# Altium footprint library vga.PcbLib: 95 footprints (part 2 of 7)
Each footprint in its own frame and in the unit in brackets; x right, y up, seen from the top. Pads: shape width x height; smd on the part's side, far side on the other; paste and mask are expansions set on the pad; w line width, h text height; cw(c..) or ccw(c..) is an arc to the next point about the centre after c.
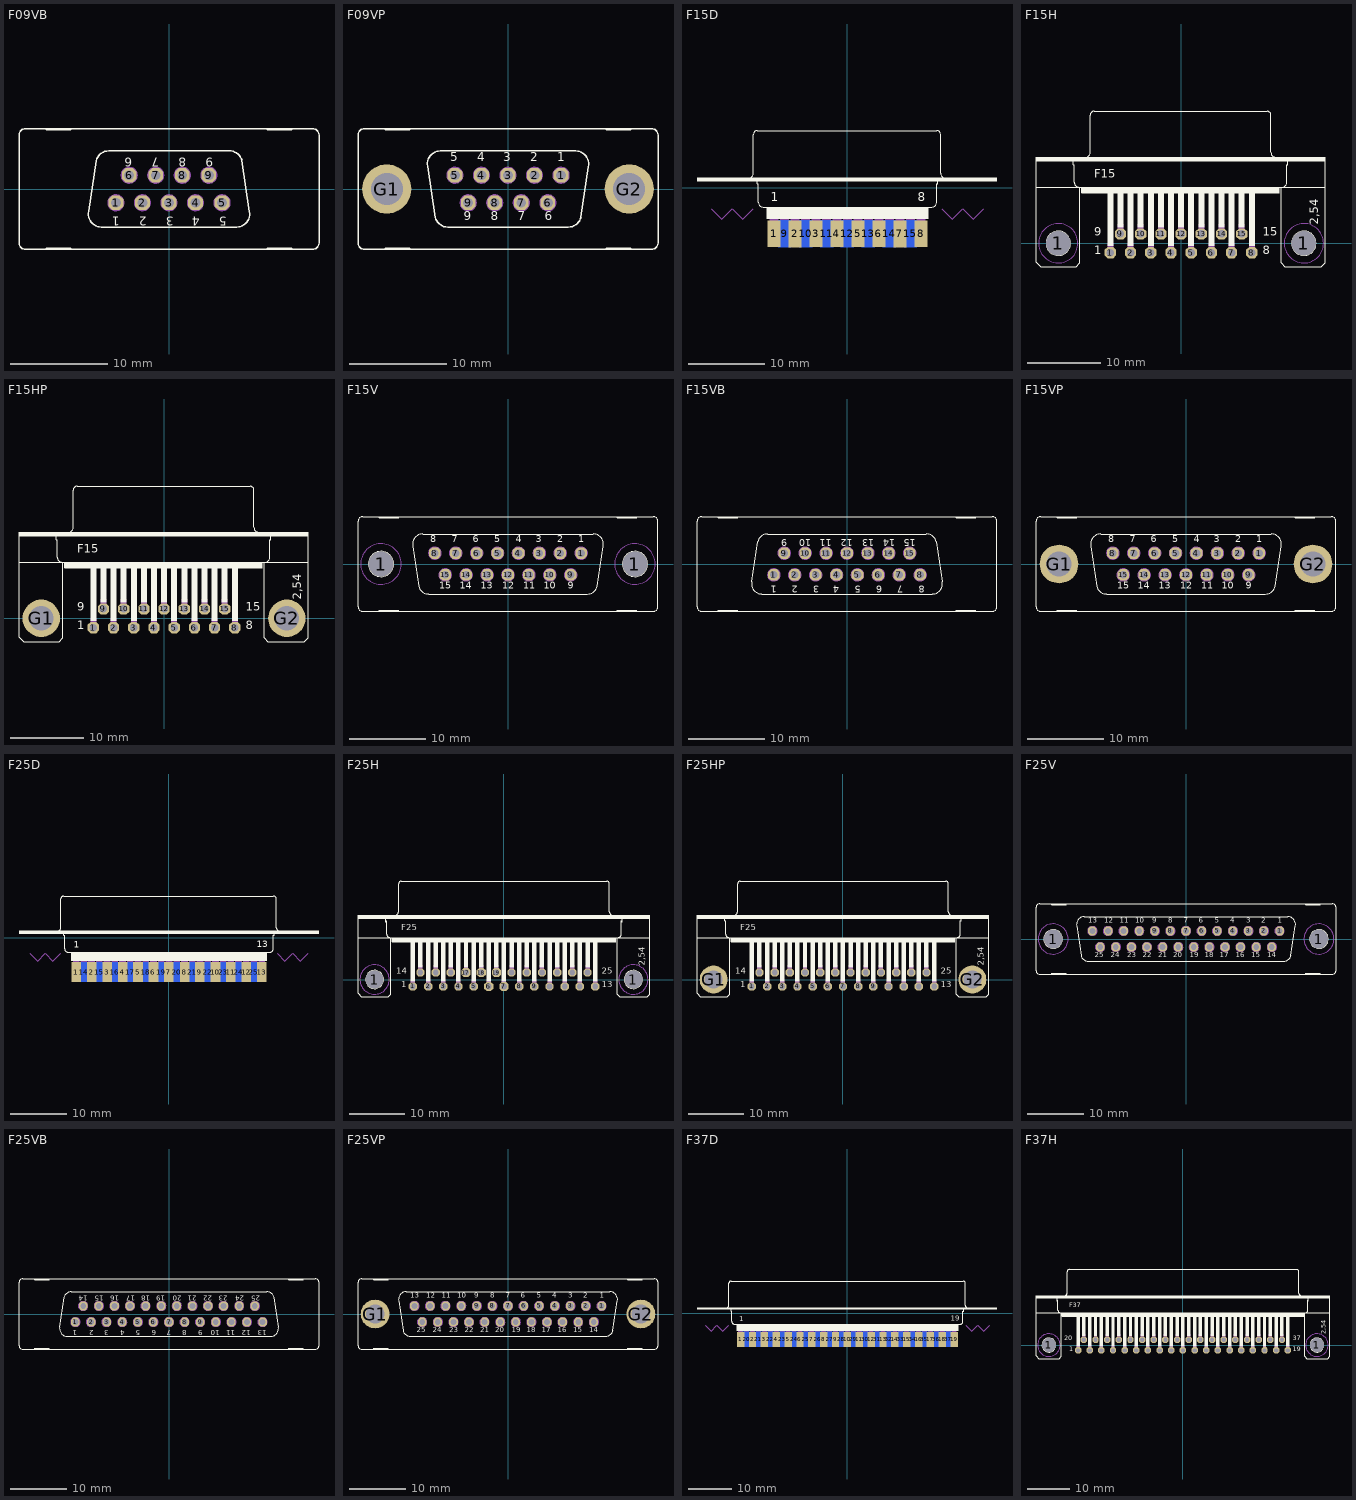
[diagram p1: the footprints below, top view; thin cyan lines are the x and y axes]

## F09VB [mil]
pads (9):
  oct 60x60 hole 40: 1(-216,-56) 2(-108,-56) 3(0,-56) 4(108,-56) 5(216,-56) 6(-162,56) 7(-54,56) 8(54,56) 9(162,56)
Top Overlay:
  lines w6: -327,-91 -296,115 ; -326.79,-90.7 ccw(c-275,-101.99) -275,-155 275,-155 ccw(c275.01,-101.99) 327,-91.61 ; -296.52,115 cw(c-245.39,102.31) -245,155 245,155 cw(c245.78,101.88) 297,116 ; 296,116 327,-92 ; -500,-245 -585,-245 cw(c-585,-220) -610,-220 -610,220 cw(c-585,220) -585,245 -500,245 ; -500,-245 -500,-240 -400,-240 -400,-245 ; -500,-245 -400,-245 ; -500,245 -400,245 ; -500,245 -500,240 -400,240 -400,245 ; -400,-245 400,-245 ; -400,245 400,245 ; 400,-245 400,-240 500,-240 500,-245 ; 400,-245 500,-245 ; 400,245 500,245 ; 400,245 400,240 500,240 500,245 ; 500,-245 585,-245 ccw(c585,-220) 610,-220 610,220 ccw(c585,220) 585,245 500,245
  text "1" at -200,-100 h60.45
  text "2" at -90,-100 h60.45
  text "3" at 20,-100 h60.45
  text "4" at 125,-100 h60.45
  text "5" at 235,-100 h60.45
  text "6" at -150,140 h60.45
  text "7" at -40,140 h60.45
  text "8" at 70,140 h60.45
  text "9" at 180,140 h60.45
Mechanical 2:
  text ">NAME" at -605,325 h108.5
Mechanical 4:
  text ">VALUE" at 0,325 h108.5
Mechanical 16:
  circle w10: c-54,56 r30
  circle w10: c-108,-56 r30
  circle w10: c-162,56 r30
  circle w10: c-216,-56 r30
  circle w10: c0,-56 r30
  circle w10: c54,56 r30
  circle w10: c108,-56 r30
  circle w10: c162,56 r30
  circle w10: c216,-56 r30

## F09VP [mil]
pads (11):
  oct 60x60 hole 40: 1(216,56) 2(108,56) 3(0,56) 4(-108,56) 5(-216,56) 6(162,-56) 7(54,-56) 8(-54,-56) 9(-162,-56)
  round 200 hole 130: G1(-493,0) G2(493,0)
Top Overlay:
  circle w6: c-493,0 r65
  circle w6: c493,0 r65
  lines w6: -327,92 -296,-116 ; -326.97,92 cw(c-275.16,102.2) -275,155 275,155 cw(c275.22,102.06) 327,91 296,-115 ; -296.3,-115.33 ccw(c-245,-102) -245,-155 245,-155 ccw(c245.23,-101.7) 297,-114.37 ; -500,-245 -500,-240 -400,-240 -400,-245 ; -500,-245 -400,-245 ; -500,-245 -585,-245 cw(c-585,-220) -610,-220 -610,220 cw(c-585,220) -585,245 -500,245 ; -500,245 -500,240 -400,240 -400,245 ; -500,245 -400,245 ; -400,-245 400,-245 ; -400,245 400,245 ; 400,-245 400,-240 500,-240 500,-245 ; 400,-245 500,-245 ; 400,245 400,240 500,240 500,245 ; 400,245 500,245 ; 500,-245 585,-245 ccw(c585,-220) 610,-220 610,220 ccw(c585,220) 585,245 500,245
  text "1" at 200,100 h60.45
  text "2" at 90,100 h60.45
  text "3" at -20,100 h60.45
  text "4" at -125,100 h60.45
  text "5" at -235,100 h60.45
  text "6" at 150,-140 h60.45
  text "7" at 40,-140 h60.45
  text "8" at -70,-140 h60.45
  text "9" at -180,-140 h60.45
Mechanical 2:
  text ">NAME" at -605,275 h108.5
Mechanical 4:
  text ">VALUE" at -100,275 h108.5
Mechanical 16:
  circle w10: c54,-56 r30
  circle w10: c108,56 r30
  circle w10: c162,-56 r30
  circle w10: c216,56 r30
  circle w10: c0,56 r30
  circle w10: c-54,-56 r30
  circle w10: c-108,56 r30
  circle w10: c-162,-56 r30
  circle w10: c-216,56 r30

## F15D [mil]
pads (15):
  rect 67x138 smd: 1(-378.01,-237.98) 2(-270,-237.99) 3(-161.99,-237.98) 4(-54.01,-237.98) 5(55,-237.98) 6(162,-237.98) 7(270,-237.99) 8(379,-237.98)
  rect 67x138 smd far side: 9(-324,-238) 10(-216,-238) 11(-108,-238) 12(0,-238) 13(108,-238) 14(216,-238) 15(324,-238)
Top Overlay:
  rectangle: -775,32 770,52
  rectangle: -417.32,-161.42 418,-98.43
  lines w6: -510,48 ccw(c-510,73) -485,73 -485,273 cw(c-465,273) -465,293 460,293 cw(c460,273) 480,273 480,73 ccw(c505,73) 505,48 ; -464,40 -464,20 -459,20 -459,-75 ccw(c-434,-75) -434,-100 ; -434.76,-100 435,-100 ; 434,-100 ccw(c434,-75) 459,-75 459,20 464,20 464,40
  text "1" at -395.07,-85.77 h77.5
  text "8" at 363,-85.77 h77.5
Bottom Overlay:
  text "9" at -302.82,-86.48 h77.5
  text "15" at 341,-86.48 h77.5
Mechanical 2:
  text ">NAME" at -404,-400 h108.5
Mechanical 4:
  text ">VALUE" at -4,-400 h108.5
Mechanical 13:
  lines w0: -702,-108 -648,-162 -594,-108 -540,-162 -486,-108 ; 486,-108 540,-162 594,-108 648,-162 702,-108
  text "Board" at 504,-100 h77.5
  text "Board" at -704,-100 h77.5
Mechanical 16:
  rectangle: -401.62,-258.27 -354.38,-159.84
  rectangle: -293.62,-258.27 -246.38,-159.84
  rectangle: -185.62,-258.27 -138.38,-159.84
  rectangle: -77.62,-258.27 -30.38,-159.84
  rectangle: 31,-258.27 78,-159.84
  rectangle: 139,-258.27 186,-159.84
  rectangle: 247,-258.27 294,-159.84
  rectangle: 355,-258.27 402,-159.84
  text "F15D" at -462,181 h77.5
Mechanical 30:
  rectangle: -347.62,-258.27 -300.38,-159.84
  rectangle: -239.62,-258.27 -192.38,-159.84
  rectangle: -131.62,-258.27 -84.38,-159.84
  rectangle: -23.62,-258.27 24,-159.84
  rectangle: 85,-258.27 132,-159.84
  rectangle: 193,-258.27 240,-159.84
  rectangle: 301,-258.27 348,-159.84

## F15H [mil]
pads (17):
  round 130 hole 130: 1(-656,0) 1(656,0)
  oct 60x60 hole 40: 1(-378,-50) 2(-270,-50) 3(-162,-50) 4(-54,-50) 5(54,-50) 6(162,-50) 7(270,-50) 8(378,-50) 9(-324,50) 10(-216,50) 11(-108,50) 12(0,50) 13(108,50) 14(216,50) 15(324,50)
Top Overlay:
  circle w6: c-656,0 r65
  circle w6: c656,0 r65
  rectangle: -530,270 525,300
  rectangle: -775,440 770,460
  rectangle: -394,-15 -362,270
  rectangle: -340,85 -308,270
  rectangle: -286,-15 -254,270
  rectangle: -232,85 -200,270
  rectangle: -178,-15 -146,270
  rectangle: -124,85 -92,270
  rectangle: -70,-15 -38,270
  rectangle: -16,85 16,270
  rectangle: 38,-15 70,270
  rectangle: 92,85 124,270
  rectangle: 146,-15 178,270
  rectangle: 200,85 232,270
  rectangle: 254,-15 286,270
  rectangle: 308,85 340,270
  rectangle: 362,-15 394,270
  lines w6: -545,300 cw(c-545,325) -570,325 -570,420 -575,420 -575,440 ; -510,460 ccw(c-510,485) -485,485 -485,685 cw(c-465,685) -465,705 -455,705 450,705 460,705 cw(c460,685) 480,685 480,485 ccw(c505,485) 505,460 ; 540,300 ccw(c540,325) 565,325 565,420 570,420 570,440 ; -775,300 -575,300 -540,300 ; -775,300 -775,420 -775,440 ; -775,300 -775,295 -775,-100 -750,-125 -560,-125 -540,-105 -540,300 ; -775,440 -775,460 -470,460 465,460 770,460 770,440 ; -775,440 -675,440 -575,440 ; -575,440 570,440 ; -540,300 -530,300 ; -530,300 -530,270 525,270 525,300 ; -530,300 525,300 ; 525,300 535,300 ; 535,300 570,300 770,300 ; 535,300 535,-105 555,-125 750,-125 770,-105 770,295 770,300 ; 570,440 670,440 770,440 ; 770,300 770,420 770,440
  text "1" at -465,-75 h77.5
  text "8" at 435,-75 h77.5
  text "9" at -465,25 h77.5
  text "15" at 435,25 h77.5
  text "2,54" at 750,100 h77.5
  text "F15" at -465,335 h77.5
Mechanical 2:
  text ">NAME" at -765,-250 h108.5
Mechanical 4:
  text ">VALUE" at -330,550 h108.5
Mechanical 9:
  circle w0: c-656,0 r105
  circle w0: c656,0 r105
Mechanical 10:
  circle w0: c-656,0 r105
  circle w0: c656,0 r105
Mechanical 16:
  lines w32: -378,-45 -378,-5 ; -324,55 -324,95 ; -270,-45 -270,-5 ; -216,55 -216,95 ; -162,-45 -162,-5 ; -108,55 -108,95 ; -54,-45 -54,-5 ; 0,55 0,95 ; 54,-45 54,-5 ; 108,55 108,95 ; 162,-45 162,-5 ; 216,55 216,95 ; 270,-45 270,-5 ; 324,55 324,95 ; 378,-45 378,-5

## F15HP [mil]
pads (17):
  oct 60x60 hole 40: 1(-378,-50) 2(-270,-50) 3(-162,-50) 4(-54,-50) 5(54,-50) 6(162,-50) 7(270,-50) 8(378,-50) 9(-324,50) 10(-216,50) 11(-108,50) 12(0,50) 13(108,50) 14(216,50) 15(324,50)
  round 200 hole 130: G1(-656,0) G2(656,0)
Top Overlay:
  circle w6: c-656,0 r65
  circle w6: c656,0 r65
  rectangle: -530,270 525,300
  rectangle: -775,440 770,460
  rectangle: -394,-15 -362,270
  rectangle: -340,85 -308,270
  rectangle: -286,-15 -254,270
  rectangle: -232,85 -200,270
  rectangle: -178,-15 -146,270
  rectangle: -124,85 -92,270
  rectangle: -70,-15 -38,270
  rectangle: -16,85 16,270
  rectangle: 38,-15 70,270
  rectangle: 92,85 124,270
  rectangle: 146,-15 178,270
  rectangle: 200,85 232,270
  rectangle: 254,-15 286,270
  rectangle: 308,85 340,270
  rectangle: 362,-15 394,270
  lines w6: -545,300 cw(c-545,325) -570,325 -570,420 -575,420 -575,440 ; -510,460 ccw(c-510,485) -485,485 -485,685 cw(c-465,685) -465,705 -455,705 450,705 460,705 cw(c460,685) 480,685 480,485 ccw(c505,485) 505,460 ; 540,300 ccw(c540,325) 565,325 565,420 570,420 570,440 ; -775,300 -575,300 -540,300 ; -775,300 -775,420 -775,440 ; -775,300 -775,295 -775,-100 -750,-125 -560,-125 -540,-105 -540,300 ; -775,440 -775,460 -470,460 465,460 770,460 770,440 ; -775,440 -675,440 -575,440 ; -575,440 570,440 ; -540,300 -530,300 ; -530,300 -530,270 525,270 525,300 ; -530,300 525,300 ; 525,300 535,300 ; 535,300 570,300 770,300 ; 535,300 535,-105 555,-125 750,-125 770,-105 770,295 770,300 ; 570,440 670,440 770,440 ; 770,300 770,420 770,440
  text "1" at -465,-75 h77.5
  text "8" at 435,-75 h77.5
  text "9" at -465,25 h77.5
  text "15" at 435,25 h77.5
  text "2,54" at 750,100 h77.5
  text "F15" at -465,335 h77.5
Mechanical 2:
  text ">NAME" at -765,-250 h108.5
Mechanical 4:
  text ">VALUE" at -330,550 h108.5
Mechanical 16:
  lines w32: -378,-45 -378,-5 ; -324,55 -324,95 ; -270,-45 -270,-5 ; -216,55 -216,95 ; -162,-45 -162,-5 ; -108,55 -108,95 ; -54,-45 -54,-5 ; 0,55 0,95 ; 54,-45 54,-5 ; 108,55 108,95 ; 162,-45 162,-5 ; 216,55 216,95 ; 270,-45 270,-5 ; 324,55 324,95 ; 378,-45 378,-5

## F15V [mil]
pads (17):
  round 130 hole 130: 1(-656,0) 1(656,0)
  oct 60x60 hole 40: 1(378,56) 2(270,56) 3(162,56) 4(54,56) 5(-54,56) 6(-162,56) 7(-270,56) 8(-378,56) 9(324,-56) 10(216,-56) 11(108,-56) 12(0,-56) 13(-108,-56) 14(-216,-56) 15(-324,-56)
Top Overlay:
  circle w6: c-656,0 r65
  circle w6: c656,0 r65
  lines w6: -492,92 -461,-116 ; -491.97,92 cw(c-440.16,102.2) -440,155 440,155 cw(c440.22,102.06) 492,91 461,-115 ; -461.3,-115.33 ccw(c-410,-102) -410,-155 410,-155 ccw(c410.23,-101.7) 462,-114.37 ; -665,-245 -665,-240 -565,-240 -565,-245 ; -665,-245 -565,-245 ; -665,-245 -750,-245 cw(c-750,-220) -775,-220 -775,220 cw(c-750,220) -750,245 -665,245 ; -665,245 -665,240 -565,240 -565,245 ; -665,245 -565,245 ; -565,-245 565,-245 ; -565,245 565,245 ; 565,-245 565,-240 665,-240 665,-245 ; 565,-245 665,-245 ; 565,245 565,240 665,240 665,245 ; 565,245 665,245 ; 665,-245 750,-245 ccw(c750,-220) 775,-220 775,220 ccw(c750,220) 750,245 665,245
  text "1" at 364,100 h60.45
  text "2" at 254,100 h60.45
  text "3" at 144,100 h60.45
  text "4" at 39,100 h60.45
  text "5" at -71,100 h60.45
  text "6" at -181,100 h60.45
  text "7" at -291,100 h60.45
  text "8" at -401,100 h60.45
  text "9" at 309,-140 h60.45
  text "10" at 185,-140 h60.45
  text "11" at 80,-140 h60.45
  text "12" at -30,-140 h60.45
  text "13" at -140,-140 h60.45
  text "14" at -250,-140 h60.45
  text "15" at -355,-140 h60.45
Mechanical 2:
  text ">NAME" at -770,275 h108.5
Mechanical 4:
  text ">VALUE" at -100,275 h108.5
Mechanical 9:
  circle w0: c656,0 r105
  circle w0: c-656,0 r105
Mechanical 10:
  circle w0: c656,0 r105
  circle w0: c-656,0 r105
Mechanical 16:
  circle w10: c108,-56 r30
  circle w10: c162,56 r30
  circle w10: c216,-56 r30
  circle w10: c270,56 r30
  circle w10: c54,56 r30
  circle w10: c0,-56 r30
  circle w10: c-54,56 r30
  circle w10: c-108,-56 r30
  circle w10: c-162,56 r30
  circle w10: c378,56 r30
  circle w10: c324,-56 r30
  circle w10: c-270,56 r30
  circle w10: c-378,56 r30
  circle w10: c-216,-56 r30
  circle w10: c-324,-56 r30

## F15VB [mil]
pads (15):
  oct 60x60 hole 40: 1(-378,-56) 2(-270,-56) 3(-162,-56) 4(-54,-56) 5(54,-56) 6(162,-56) 7(270,-56) 8(378,-56) 9(-324,56) 10(-216,56) 11(-108,56) 12(0,56) 13(108,56) 14(216,56) 15(324,56)
Top Overlay:
  lines w6: -492,-91 -461,115 ; -491.79,-90.7 ccw(c-440,-101.99) -440,-155 440,-155 ccw(c440.01,-101.99) 492,-91.61 ; -461.52,115 cw(c-410.39,102.31) -410,155 410,155 cw(c410.78,101.88) 462,116 ; 461,116 492,-92 ; -665,-245 -750,-245 cw(c-750,-220) -775,-220 -775,220 cw(c-750,220) -750,245 -665,245 ; -665,-245 -665,-240 -565,-240 -565,-245 ; -665,-245 -565,-245 ; -665,245 -565,245 ; -665,245 -665,240 -565,240 -565,245 ; -565,-245 565,-245 ; -565,245 565,245 ; 565,-245 565,-240 665,-240 665,-245 ; 565,-245 665,-245 ; 565,245 665,245 ; 565,245 565,240 665,240 665,245 ; 665,-245 750,-245 ccw(c750,-220) 775,-220 775,220 ccw(c750,220) 750,245 665,245
  text "1" at -364,-100 h60.45
  text "2" at -254,-100 h60.45
  text "3" at -144,-100 h60.45
  text "4" at -39,-100 h60.45
  text "5" at 71,-100 h60.45
  text "6" at 181,-100 h60.45
  text "7" at 291,-100 h60.45
  text "8" at 401,-100 h60.45
  text "9" at -309,140 h60.45
  text "10" at -185,140 h60.45
  text "11" at -80,140 h60.45
  text "12" at 30,140 h60.45
  text "13" at 140,140 h60.45
  text "14" at 250,140 h60.45
  text "15" at 355,140 h60.45
Mechanical 2:
  text ">NAME" at -720,325 h108.5
Mechanical 4:
  text ">VALUE" at -200,325 h108.5
Mechanical 16:
  circle w10: c-108,56 r30
  circle w10: c-162,-56 r30
  circle w10: c-216,56 r30
  circle w10: c-270,-56 r30
  circle w10: c-54,-56 r30
  circle w10: c0,56 r30
  circle w10: c54,-56 r30
  circle w10: c108,56 r30
  circle w10: c162,-56 r30
  circle w10: c-378,-56 r30
  circle w10: c-324,56 r30
  circle w10: c270,-56 r30
  circle w10: c378,-56 r30
  circle w10: c216,56 r30
  circle w10: c324,56 r30

## F15VP [mil]
pads (17):
  oct 60x60 hole 40: 1(378,56) 2(270,56) 3(162,56) 4(54,56) 5(-54,56) 6(-162,56) 7(-270,56) 8(-378,56) 9(324,-56) 10(216,-56) 11(108,-56) 12(0,-56) 13(-108,-56) 14(-216,-56) 15(-324,-56)
  round 200 hole 130: G1(-656,0) G2(656,0)
Top Overlay:
  circle w6: c-656,0 r65
  circle w6: c656,0 r65
  lines w6: -492,92 -461,-116 ; -491.97,92 cw(c-440.16,102.2) -440,155 440,155 cw(c440.22,102.06) 492,91 461,-115 ; -461.3,-115.33 ccw(c-410,-102) -410,-155 410,-155 ccw(c410.23,-101.7) 462,-114.37 ; -665,-245 -665,-240 -565,-240 -565,-245 ; -665,-245 -565,-245 ; -665,-245 -750,-245 cw(c-750,-220) -775,-220 -775,220 cw(c-750,220) -750,245 -665,245 ; -665,245 -665,240 -565,240 -565,245 ; -665,245 -565,245 ; -565,-245 565,-245 ; -565,245 565,245 ; 565,-245 565,-240 665,-240 665,-245 ; 565,-245 665,-245 ; 565,245 565,240 665,240 665,245 ; 565,245 665,245 ; 665,-245 750,-245 ccw(c750,-220) 775,-220 775,220 ccw(c750,220) 750,245 665,245
  text "1" at 364,100 h60.45
  text "2" at 254,100 h60.45
  text "3" at 144,100 h60.45
  text "4" at 39,100 h60.45
  text "5" at -71,100 h60.45
  text "6" at -181,100 h60.45
  text "7" at -291,100 h60.45
  text "8" at -401,100 h60.45
  text "9" at 309,-140 h60.45
  text "10" at 185,-140 h60.45
  text "11" at 80,-140 h60.45
  text "12" at -30,-140 h60.45
  text "13" at -140,-140 h60.45
  text "14" at -250,-140 h60.45
  text "15" at -355,-140 h60.45
Mechanical 2:
  text ">NAME" at -770,275 h108.5
Mechanical 4:
  text ">VALUE" at -100,275 h108.5
Mechanical 16:
  circle w10: c108,-56 r30
  circle w10: c162,56 r30
  circle w10: c216,-56 r30
  circle w10: c270,56 r30
  circle w10: c54,56 r30
  circle w10: c0,-56 r30
  circle w10: c-54,56 r30
  circle w10: c-108,-56 r30
  circle w10: c-162,56 r30
  circle w10: c378,56 r30
  circle w10: c324,-56 r30
  circle w10: c-270,56 r30
  circle w10: c-378,56 r30
  circle w10: c-216,-56 r30
  circle w10: c-324,-56 r30

## F25D [mil]
pads (25):
  rect 67x138 smd: 1(-648.01,-237.98) 2(-540,-237.99) 3(-431.99,-237.98) 4(-324.01,-237.98) 5(-215.99,-237.98) 6(-108.01,-237.98) 7(0,-237.99) 8(109,-237.98) 9(216,-237.98) 10(325,-237.98) 11(432,-237.98) 12(540,-237.99) 13(649,-237.98)
  rect 67x138 smd far side: 14(-594,-238) 15(-486,-238) 16(-378,-238) 17(-270,-238) 18(-162,-238) 19(-54,-238) 20(54,-238) 21(162,-238) 22(270,-238) 23(378,-238) 24(486,-238) 25(594,-238)
Top Overlay:
  rectangle: -1047.24,28 1048,52
  rectangle: -685.04,-161.42 686,-98.43
  lines w6: -780,48 ccw(c-780,73) -755,73 -755,273 cw(c-735,273) -735,293 730,293 cw(c730,273) 750,273 750,73 ccw(c775,73) 775,48 ; -734,40 -734,20 -729,20 -729,-75 ccw(c-704,-75) -704,-100 ; -704.76,-100 705,-100 ; 704,-100 ccw(c704,-75) 729,-75 729,20 734,20 734,40
  text "1" at -665.07,-85.77 h77.5
  text "13" at 613,-81.83 h77.5
Bottom Overlay:
  text "25" at 627,-32.48 h77.5
  text "14" at -553.13,-32.48 h77.5
Mechanical 2:
  text ">NAME" at -458,-400 h108.5
Mechanical 4:
  text ">VALUE" at -58,-400 h108.5
Mechanical 13:
  lines w0: -972,-108 -918,-162 -864,-108 -810,-162 -756,-108 ; 756,-108 810,-162 864,-108 918,-162 972,-108
  text "Board" at 774,-100 h77.5
  text "Board" at -974,-100 h77.5
Mechanical 16:
  rectangle: -671.62,-258.27 -624.38,-159.84
  rectangle: -563.62,-258.27 -516.38,-159.84
  rectangle: -455.62,-258.27 -408.38,-159.84
  rectangle: -347.62,-258.27 -300.38,-159.84
  rectangle: -239.62,-258.27 -192.38,-159.84
  rectangle: -131.62,-258.27 -84.38,-159.84
  rectangle: -23.62,-258.27 24,-159.84
  rectangle: 85,-258.27 132,-159.84
  rectangle: 193,-258.27 240,-159.84
  rectangle: 301,-258.27 348,-159.84
  rectangle: 409,-258.27 456,-159.84
  rectangle: 517,-258.27 564,-159.84
  rectangle: 625,-258.27 672,-159.84
  text "F25D" at -678,181 h77.5
Mechanical 30:
  rectangle: -617.62,-258.27 -570.38,-159.84
  rectangle: -509.62,-258.27 -462.38,-159.84
  rectangle: -401.62,-258.27 -354.38,-159.84
  rectangle: -293.62,-258.27 -246.38,-159.84
  rectangle: -185.62,-258.27 -138.38,-159.84
  rectangle: -77.62,-258.27 -30.38,-159.84
  rectangle: 31,-258.27 78,-159.84
  rectangle: 139,-258.27 186,-159.84
  rectangle: 247,-258.27 294,-159.84
  rectangle: 355,-258.27 402,-159.84
  rectangle: 463,-258.27 510,-159.84
  rectangle: 571,-258.27 618,-159.84

## F25H [mil]
pads (27):
  round 130 hole 130: 1(-926,0) 1(926,0)
  oct 60x60 hole 40: 1(-652,-50) 2(-543,-50) 3(-435,-50) 4(-326,-50) 5(-217,-50) 8(109,-50) 9(217,-50) 10(326,-50) 11(435,-50) 12(543,-50) 13(652,-50) 14(-598,50) 15(-489,50) 16(-380,50) 20(54,50) 21(163,50) 22(272,50) 23(380,50) 24(489,50) 25(598,50)
  oct 66x66 hole 40: 6(-109,-50) 7(0,-50) 17(-272,50) 18(-163,50) 19(-54,50)
Top Overlay:
  circle w6: c-926,0 r65
  circle w6: c926,0 r65
  rectangle: -800,270 800,300
  rectangle: -1045,440 1045,460
  rectangle: -668,-15 -636,270
  rectangle: -614,85 -582,270
  rectangle: -559,-15 -527,270
  rectangle: -505,85 -473,270
  rectangle: -451,-15 -419,270
  rectangle: -396,85 -364,270
  rectangle: -342,-15 -310,270
  rectangle: -288,85 -256,270
  rectangle: -233,-15 -201,270
  rectangle: -179,85 -147,270
  rectangle: -125,-15 -93,270
  rectangle: -70,85 -38,270
  rectangle: -16,-15 16,270
  rectangle: 38,85 70,270
  rectangle: 93,-15 125,270
  rectangle: 147,85 179,270
  rectangle: 201,-15 233,270
  rectangle: 255,85 287,270
  rectangle: 310,-15 342,270
  rectangle: 364,85 396,270
  rectangle: 419,-15 451,270
  rectangle: 473,85 505,270
  rectangle: 527,-15 559,270
  rectangle: 582,85 614,270
  rectangle: 636,-15 668,270
  lines w6: -845,410 -845,420 ; -815,300 cw(c-815,325) -840,325 -840,420 -845,420 ; -780,460 ccw(c-780,485) -755,485 -755,685 cw(c-735,685) -735,705 -725,705 725,705 735,705 cw(c735,685) 755,685 755,485 ccw(c780,485) 780,460 ; 815,300 ccw(c815,325) 840,325 840,420 845,420 ; 845,410 845,420 ; -1045,300 -845,300 -810,300 ; -1045,300 -1045,420 -1045,440 ; -1045,300 -1045,295 -1045,-100 -1020,-125 -830,-125 -810,-105 -810,300 ; -1045,440 -1045,460 -740,460 740,460 1045,460 1045,440 ; -1045,440 -945,440 -845,440 ; -845,420 -845,440 ; -845,440 845,440 ; -810,300 -800,300 ; -800,300 -800,270 800,270 800,300 ; -800,300 800,300 ; 800,300 810,300 ; 810,300 845,300 1045,300 ; 810,300 810,-105 830,-125 1025,-125 1045,-105 1045,295 1045,300 ; 845,420 845,440 ; 845,440 945,440 1045,440 ; 1045,300 1045,420 1045,440
  text "1" at -735,-75 h77.5
  text "13" at 700,-75 h77.5
  text "14" at -770,25 h77.5
  text "25" at 700,25 h77.5
  text "2,54" at 1025,100 h77.5
  text "F25" at -735,335 h77.5
Mechanical 2:
  text ">NAME" at -1035,-250 h108.5
Mechanical 4:
  text ">VALUE" at -330,550 h108.5
Mechanical 9:
  circle w0: c-926,0 r105
  circle w0: c926,0 r105
Mechanical 10:
  circle w0: c-926,0 r105
  circle w0: c926,0 r105
Mechanical 16:
  lines w32: -652,-45 -652,-5 ; -598,55 -598,95 ; -543,-45 -543,-5 ; -489,55 -489,95 ; -435,-45 -435,-5 ; -380,55 -380,95 ; -326,-45 -326,-5 ; -272,55 -272,95 ; -217,-45 -217,-5 ; -163,55 -163,95 ; -109,-45 -109,-5 ; -54,55 -54,95 ; 0,-45 0,-5 ; 54,55 54,95 ; 109,-45 109,-5 ; 163,55 163,95 ; 217,-45 217,-5 ; 271,55 271,95 ; 326,-45 326,-5 ; 380,55 380,95 ; 435,-45 435,-5 ; 489,55 489,95 ; 543,-45 543,-5 ; 598,55 598,95 ; 652,-45 652,-5

## F25HP [mil]
pads (27):
  oct 60x60 hole 40: 1(-652,-50) 2(-543,-50) 3(-435,-50) 4(-326,-50) 5(-217,-50) 6(-109,-50) 7(0,-50) 8(109,-50) 9(217,-50) 10(326,-50) 11(435,-50) 12(543,-50) 13(652,-50) 14(-598,50) 15(-489,50) 16(-380,50) 17(-272,50) 18(-163,50) 19(-54,50) 20(54,50) 21(163,50) 22(272,50) 23(380,50) 24(489,50) 25(598,50)
  round 200 hole 130: G1(-926,0) G2(926,0)
Top Overlay:
  circle w6: c-926,0 r65
  circle w6: c926,0 r65
  rectangle: -800,270 800,300
  rectangle: -1045,440 1045,460
  rectangle: -668,-15 -636,270
  rectangle: -614,85 -582,270
  rectangle: -559,-15 -527,270
  rectangle: -505,85 -473,270
  rectangle: -451,-15 -419,270
  rectangle: -396,85 -364,270
  rectangle: -342,-15 -310,270
  rectangle: -288,85 -256,270
  rectangle: -233,-15 -201,270
  rectangle: -179,85 -147,270
  rectangle: -124,-15 -92,270
  rectangle: -70,85 -38,270
  rectangle: -16,-15 16,270
  rectangle: 38,85 70,270
  rectangle: 93,-15 125,270
  rectangle: 147,85 179,270
  rectangle: 201,-15 233,270
  rectangle: 256,85 288,270
  rectangle: 310,-15 342,270
  rectangle: 364,85 396,270
  rectangle: 419,-15 451,270
  rectangle: 472,85 504,270
  rectangle: 527,-15 559,270
  rectangle: 581,85 613,270
  rectangle: 636,-15 668,270
  lines w6: -815,300 cw(c-815,325) -840,325 -840,420 -845,420 -845,440 ; -780,460 ccw(c-780,485) -755,485 -755,685 cw(c-735,685) -735,705 -725,705 725,705 735,705 cw(c735,685) 755,685 755,485 ccw(c780,485) 780,460 ; 815,300 ccw(c815,325) 840,325 840,420 845,420 845,440 ; -1045,300 -845,300 -810,300 ; -1045,300 -1045,420 -1045,440 ; -1045,300 -1045,295 -1045,-100 -1020,-125 -830,-125 -810,-105 -810,300 ; -1045,440 -1045,460 -740,460 740,460 1045,460 1045,440 ; -1045,440 -945,440 -845,440 ; -845,440 845,440 ; -810,300 -800,300 ; -800,300 -800,270 800,270 800,300 ; -800,300 800,300 ; 800,300 810,300 ; 810,300 845,300 1045,300 ; 810,300 810,-105 830,-125 1025,-125 1045,-105 1045,295 1045,300 ; 845,440 945,440 1045,440 ; 1045,300 1045,420 1045,440
  text "1" at -735,-75 h77.5
  text "13" at 700,-75 h77.5
  text "14" at -770,25 h77.5
  text "25" at 700,25 h77.5
  text "2,54" at 1025,100 h77.5
  text "F25" at -735,335 h77.5
Mechanical 2:
  text ">NAME" at -1035,-250 h108.5
Mechanical 4:
  text ">VALUE" at -330,550 h108.5
Mechanical 16:
  lines w32: -652,-45 -652,-5 ; -598,55 -598,95 ; -543,-45 -543,-5 ; -489,55 -489,95 ; -435,-45 -435,-5 ; -380,55 -380,95 ; -326,-45 -326,-5 ; -272,55 -272,95 ; -217,-45 -217,-5 ; -163,55 -163,95 ; -109,-45 -109,-5 ; -54,55 -54,95 ; 0,-45 0,-5 ; 54,55 54,95 ; 109,-45 109,-5 ; 163,55 163,95 ; 217,-45 217,-5 ; 272,55 272,95 ; 326,-45 326,-5 ; 380,55 380,95 ; 435,-45 435,-5 ; 488,55 488,95 ; 543,-45 543,-5 ; 597,55 597,95 ; 652,-45 652,-5

## F25V [mil]
pads (27):
  round 130 hole 130: 1(-926,0) 1(926,0)
  oct 60x60 hole 40: 1(652,56) 2(543,56) 3(435,56) 4(326,56) 5(217,56) 6(109,56) 7(0,56) 8(-109,56) 9(-217,56) 10(-326,56) 11(-435,56) 12(-543,56) 13(-652,56) 14(598,-56) 15(489,-56) 16(380,-56) 17(272,-56) 18(163,-56) 19(54,-56) 20(-54,-56) 21(-163,-56) 22(-272,-56) 23(-380,-56) 24(-489,-56) 25(-598,-56)
Top Overlay:
  circle w6: c-926,0 r65
  circle w6: c926,0 r65
  lines w6: -762,92 -731,-116 ; -761.97,92 cw(c-710.16,102.2) -710,155 710,155 cw(c710.22,102.06) 762,91 731,-115 ; -731.3,-115.33 ccw(c-680,-102) -680,-155 680,-155 ccw(c680.23,-101.7) 732,-114.37 ; -935,-245 -935,-240 -835,-240 -835,-245 ; -935,-245 -835,-245 ; -935,-245 -1020,-245 cw(c-1020,-220) -1045,-220 -1045,220 cw(c-1020,220) -1020,245 -935,245 ; -935,245 -935,240 -835,240 -835,245 ; -935,245 -835,245 ; -835,-245 835,-245 ; -835,245 835,245 ; 835,-245 835,-240 935,-240 935,-245 ; 835,-245 935,-245 ; 835,245 835,240 935,240 935,245 ; 835,245 935,245 ; 935,-245 1020,-245 ccw(c1020,-220) 1045,-220 1045,220 ccw(c1020,220) 1020,245 935,245
  text "1" at 640,100 h60.45
  text "2" at 525,100 h60.45
  text "3" at 420,100 h60.45
  text "4" at 310,100 h60.45
  text "5" at 200,100 h60.45
  text "6" at 90,100 h60.45
  text "7" at -15,100 h60.45
  text "8" at -125,100 h60.45
  text "9" at -235,100 h60.45
  text "10" at -355,100 h60.45
  text "11" at -460,100 h60.45
  text "12" at -570,100 h60.45
  text "13" at -680,100 h60.45
  text "25" at -635,-140 h60.45
  text "24" at -525,-140 h60.45
  text "23" at -410,-140 h60.45
  text "22" at -300,-140 h60.45
  text "21" at -195,-140 h60.45
  text "20" at -90,-140 h60.45
  text "19" at 25,-140 h60.45
  text "18" at 130,-140 h60.45
  text "17" at 235,-140 h60.45
  text "16" at 345,-140 h60.45
  text "15" at 455,-140 h60.45
  text "14" at 565,-140 h60.45
Mechanical 2:
  text ">NAME" at -1040,275 h108.5
Mechanical 4:
  text ">VALUE" at -100,275 h108.5
Mechanical 9:
  circle w0: c926,0 r105
  circle w0: c-926,0 r105
Mechanical 10:
  circle w0: c926,0 r105
  circle w0: c-926,0 r105
Mechanical 16:
  circle w10: c54,-56 r30
  circle w10: c0,56 r30
  circle w10: c-54,-56 r30
  circle w10: c109,56 r30
  circle w10: c-109,56 r30
  circle w10: c163,-56 r30
  circle w10: c-163,-56 r30
  circle w10: c217,56 r30
  circle w10: c326,56 r30
  circle w10: c272,-56 r30
  circle w10: c380,-56 r30
  circle w10: c435,56 r30
  circle w10: c489,-56 r30
  circle w10: c543,56 r30
  circle w10: c598,-56 r30
  circle w10: c652,56 r30
  circle w10: c-217,56 r30
  circle w10: c-326,56 r30
  circle w10: c-435,56 r30
  circle w10: c-272,-56 r30
  circle w10: c-380,-56 r30
  circle w10: c-489,-56 r30
  circle w10: c-543,56 r30
  circle w10: c-652,56 r30
  circle w10: c-598,-56 r30

## F25VB [mil]
pads (25):
  oct 60x60 hole 40: 1(-652,-56) 2(-543,-56) 3(-435,-56) 4(-326,-56) 5(-217,-56) 6(-109,-56) 7(0,-56) 8(109,-56) 9(217,-56) 10(326,-56) 11(435,-56) 12(543,-56) 13(652,-56) 14(-598,56) 15(-489,56) 16(-380,56) 17(-272,56) 18(-163,56) 19(-54,56) 20(54,56) 21(163,56) 22(272,56) 23(380,56) 24(489,56) 25(598,56)
Top Overlay:
  lines w6: -762,-91 -731,115 ; -761.79,-90.7 ccw(c-710,-101.99) -710,-155 710,-155 ccw(c710.01,-101.99) 762,-91.61 ; -731.52,115 cw(c-680.39,102.31) -680,155 680,155 cw(c680.78,101.88) 732,116 ; 731,116 762,-92 ; -935,-245 -1020,-245 cw(c-1020,-220) -1045,-220 -1045,220 cw(c-1020,220) -1020,245 -935,245 ; -935,-245 -935,-240 -835,-240 -835,-245 ; -935,-245 -835,-245 ; -935,245 -835,245 ; -935,245 -935,240 -835,240 -835,245 ; -835,-245 835,-245 ; -835,245 835,245 ; 835,-245 835,-240 935,-240 935,-245 ; 835,-245 935,-245 ; 835,245 935,245 ; 835,245 835,240 935,240 935,245 ; 935,-245 1020,-245 ccw(c1020,-220) 1045,-220 1045,220 ccw(c1020,220) 1020,245 935,245
  text "1" at -640,-100 h60.45
  text "2" at -525,-100 h60.45
  text "3" at -420,-100 h60.45
  text "4" at -310,-100 h60.45
  text "5" at -200,-100 h60.45
  text "6" at -90,-100 h60.45
  text "7" at 15,-100 h60.45
  text "8" at 125,-100 h60.45
  text "9" at 235,-100 h60.45
  text "10" at 355,-100 h60.45
  text "11" at 460,-100 h60.45
  text "12" at 570,-100 h60.45
  text "13" at 680,-100 h60.45
  text "25" at 635,140 h60.45
  text "24" at 525,140 h60.45
  text "23" at 410,140 h60.45
  text "22" at 300,140 h60.45
  text "21" at 195,140 h60.45
  text "20" at 90,140 h60.45
  text "19" at -25,140 h60.45
  text "18" at -130,140 h60.45
  text "17" at -235,140 h60.45
  text "16" at -345,140 h60.45
  text "15" at -455,140 h60.45
  text "14" at -565,140 h60.45
Mechanical 2:
  text ">NAME" at -990,325 h108.5
Mechanical 4:
  text ">VALUE" at -450,325 h108.5
Mechanical 16:
  circle w10: c-54,56 r30
  circle w10: c0,-56 r30
  circle w10: c54,56 r30
  circle w10: c-109,-56 r30
  circle w10: c109,-56 r30
  circle w10: c-163,56 r30
  circle w10: c163,56 r30
  circle w10: c-217,-56 r30
  circle w10: c-326,-56 r30
  circle w10: c-272,56 r30
  circle w10: c-380,56 r30
  circle w10: c-435,-56 r30
  circle w10: c-489,56 r30
  circle w10: c-543,-56 r30
  circle w10: c-598,56 r30
  circle w10: c-652,-56 r30
  circle w10: c217,-56 r30
  circle w10: c326,-56 r30
  circle w10: c435,-56 r30
  circle w10: c272,56 r30
  circle w10: c380,56 r30
  circle w10: c489,56 r30
  circle w10: c543,-56 r30
  circle w10: c652,-56 r30
  circle w10: c598,56 r30

## F25VP [mil]
pads (27):
  oct 60x60 hole 40: 1(652,56) 2(543,56) 3(435,56) 4(326,56) 5(217,56) 6(109,56) 7(0,56) 8(-109,56) 9(-217,56) 10(-326,56) 11(-435,56) 12(-543,56) 13(-652,56) 14(598,-56) 15(489,-56) 16(380,-56) 17(272,-56) 18(163,-56) 19(54,-56) 20(-54,-56) 21(-163,-56) 22(-272,-56) 23(-380,-56) 24(-489,-56) 25(-598,-56)
  round 200 hole 130: G1(-926,0) G2(926,0)
Top Overlay:
  circle w6: c-926,0 r65
  circle w6: c926,0 r65
  lines w6: -762,92 -731,-116 ; -761.97,92 cw(c-710.16,102.2) -710,155 710,155 cw(c710.22,102.06) 762,91 731,-115 ; -731.3,-115.33 ccw(c-680,-102) -680,-155 680,-155 ccw(c680.23,-101.7) 732,-114.37 ; -935,-245 -935,-240 -835,-240 -835,-245 ; -935,-245 -835,-245 ; -935,-245 -1020,-245 cw(c-1020,-220) -1045,-220 -1045,220 cw(c-1020,220) -1020,245 -935,245 ; -935,245 -935,240 -835,240 -835,245 ; -935,245 -835,245 ; -835,-245 835,-245 ; -835,245 835,245 ; 835,-245 835,-240 935,-240 935,-245 ; 835,-245 935,-245 ; 835,245 835,240 935,240 935,245 ; 835,245 935,245 ; 935,-245 1020,-245 ccw(c1020,-220) 1045,-220 1045,220 ccw(c1020,220) 1020,245 935,245
  text "1" at 640,100 h60.45
  text "2" at 525,100 h60.45
  text "3" at 420,100 h60.45
  text "4" at 310,100 h60.45
  text "5" at 200,100 h60.45
  text "6" at 90,100 h60.45
  text "7" at -15,100 h60.45
  text "8" at -125,100 h60.45
  text "9" at -235,100 h60.45
  text "10" at -355,100 h60.45
  text "11" at -460,100 h60.45
  text "12" at -570,100 h60.45
  text "13" at -680,100 h60.45
  text "25" at -635,-140 h60.45
  text "24" at -525,-140 h60.45
  text "23" at -410,-140 h60.45
  text "22" at -300,-140 h60.45
  text "21" at -195,-140 h60.45
  text "20" at -90,-140 h60.45
  text "19" at 25,-140 h60.45
  text "18" at 130,-140 h60.45
  text "17" at 235,-140 h60.45
  text "16" at 345,-140 h60.45
  text "15" at 455,-140 h60.45
  text "14" at 565,-140 h60.45
Mechanical 2:
  text ">NAME" at -1040,275 h108.5
Mechanical 4:
  text ">VALUE" at -100,275 h108.5
Mechanical 16:
  circle w10: c54,-56 r30
  circle w10: c0,56 r30
  circle w10: c-54,-56 r30
  circle w10: c109,56 r30
  circle w10: c-109,56 r30
  circle w10: c163,-56 r30
  circle w10: c-163,-56 r30
  circle w10: c217,56 r30
  circle w10: c326,56 r30
  circle w10: c272,-56 r30
  circle w10: c380,-56 r30
  circle w10: c435,56 r30
  circle w10: c489,-56 r30
  circle w10: c543,56 r30
  circle w10: c598,-56 r30
  circle w10: c652,56 r30
  circle w10: c-217,56 r30
  circle w10: c-326,56 r30
  circle w10: c-435,56 r30
  circle w10: c-272,-56 r30
  circle w10: c-380,-56 r30
  circle w10: c-489,-56 r30
  circle w10: c-543,56 r30
  circle w10: c-652,56 r30
  circle w10: c-598,-56 r30

## F37D [mil]
pads (37):
  rect 67x138 smd: 1(-972.01,-237.99) 2(-864.01,-237.98) 3(-755.99,-237.98) 4(-648.01,-237.98) 5(-540,-237.99) 6(-431.99,-237.98) 7(-324.01,-237.98) 8(-215.99,-237.98) 9(-108.01,-237.98) 10(0,-237.99) 11(109,-237.98) 12(216,-237.98) 13(325,-237.98) 14(432,-237.98) 15(540,-237.99) 16(649,-237.98) 17(756,-237.98) 18(865,-237.98) 19(973,-237.99)
  rect 67x138 smd far side: 20(-918,-238) 21(-810,-238) 22(-702,-238) 23(-594,-238) 24(-486,-238) 25(-378,-238) 26(-270,-238) 27(-162,-238) 28(-54,-238) 29(54,-238) 30(162,-238) 31(270,-238) 32(378,-238) 33(486,-238) 34(594,-238) 35(702,-238) 36(810,-238) 37(918,-238)
Top Overlay:
  rectangle: -775,32 770,52
  rectangle: -1370.08,32 1363,52
  rectangle: -1011.81,-161.42 1012,-98.43
  lines w6: -1104,48 ccw(c-1104,73) -1079,73 -1079,273 cw(c-1059,273) -1059,293 1054,293 cw(c1054,273) 1074,273 1074,73 ccw(c1099,73) 1099,48 ; -1058,40 -1058,20 -1053,20 -1053,-75 ccw(c-1028,-75) -1028,-100 ; -1028.74,-100 1029,-100 ; 1028,-100 ccw(c1028,-75) 1053,-75 1053,20 1058,20 1058,40
  text "1" at -985.13,-89.71 h77.5
  text "19" at 941,-85.77 h77.5
Bottom Overlay:
  text "20" at -873.2,-31.36 h77.5
  text "37" at 951,-27.43 h77.5
Mechanical 2:
  text ">NAME" at -404,-400 h108.5
Mechanical 4:
  text ">VALUE" at -4,-400 h108.5
Mechanical 13:
  lines w0: -1296,-108 -1242,-162 -1188,-108 -1134,-162 -1080,-108 ; 1080,-108 1134,-162 1188,-108 1242,-162 1296,-108
  text "Board" at 1098,-100 h77.5
  text "Board" at -1298,-100 h77.5
Mechanical 16:
  rectangle: -995.62,-258.27 -948.38,-159.84
  rectangle: -887.62,-258.27 -840.38,-159.84
  rectangle: -779.62,-258.27 -732.38,-159.84
  rectangle: -671.62,-258.27 -624.38,-159.84
  rectangle: -563.62,-258.27 -516.38,-159.84
  rectangle: -455.62,-258.27 -408.38,-159.84
  rectangle: -347.62,-258.27 -300.38,-159.84
  rectangle: -239.62,-258.27 -192.38,-159.84
  rectangle: -131.62,-258.27 -84.38,-159.84
  rectangle: -23.62,-258.27 24,-159.84
  rectangle: 85,-258.27 132,-159.84
  rectangle: 193,-258.27 240,-159.84
  rectangle: 301,-258.27 348,-159.84
  rectangle: 409,-258.27 456,-159.84
  rectangle: 517,-258.27 564,-159.84
  rectangle: 625,-258.27 672,-159.84
  rectangle: 733,-258.27 780,-159.84
  rectangle: 841,-258.27 888,-159.84
  rectangle: 949,-258.27 996,-159.84
  text "F37D" at -1002,181 h77.5
Mechanical 30:
  rectangle: -941.62,-258.27 -894.38,-159.84
  rectangle: -833.62,-258.27 -786.38,-159.84
  rectangle: -725.62,-258.27 -678.38,-159.84
  rectangle: -617.62,-258.27 -570.38,-159.84
  rectangle: -509.62,-258.27 -462.38,-159.84
  rectangle: -401.62,-258.27 -354.38,-159.84
  rectangle: -293.62,-258.27 -246.38,-159.84
  rectangle: -185.62,-258.27 -138.38,-159.84
  rectangle: -77.62,-258.27 -30.38,-159.84
  rectangle: 31,-258.27 78,-159.84
  rectangle: 139,-258.27 186,-159.84
  rectangle: 247,-258.27 294,-159.84
  rectangle: 355,-258.27 402,-159.84
  rectangle: 463,-258.27 510,-159.84
  rectangle: 571,-258.27 618,-159.84
  rectangle: 679,-258.27 726,-159.84
  rectangle: 787,-258.27 834,-159.84
  rectangle: 895,-258.27 942,-159.84

## F37H [mil]
pads (39):
  round 130 hole 130: 1(-1250,0) 1(1250,0)
  oct 60x60 hole 40: 1(-978,-50) 2(-869,-50) 3(-761,-50) 4(-652,-50) 5(-543,-50) 6(-435,-50) 7(-326,-50) 8(-217,-50) 9(-109,-50) 10(0,-50) 11(109,-50) 12(217,-50) 13(326,-50) 14(435,-50) 15(544,-50) 16(652,-50) 17(761,-50) 18(870,-50) 19(978,-50) 20(-924,50) 21(-815,50) 22(-706,50) 23(-598,50) 24(-489,50) 25(-380,50) 26(-272,50) 27(-163,50) 28(-54,50) 29(54,50) 30(163,50) 31(272,50) 32(381,50) 33(489,50) 34(598,50) 35(707,50) 36(815,50) 37(924,50)
Top Overlay:
  circle w6: c-1250,0 r65
  circle w6: c1250,0 r65
  rectangle: -1125,270 1125,300
  rectangle: -1370,440 1370,460
  rectangle: -994,-15 -962,270
  rectangle: -940,85 -908,270
  rectangle: -885,-15 -853,270
  rectangle: -831,85 -799,270
  rectangle: -777,-15 -745,270
  rectangle: -722,85 -690,270
  rectangle: -668,-15 -636,270
  rectangle: -614,85 -582,270
  rectangle: -559,-15 -527,270
  rectangle: -505,85 -473,270
  rectangle: -451,-15 -419,270
  rectangle: -396,85 -364,270
  rectangle: -342,-15 -310,270
  rectangle: -288,85 -256,270
  rectangle: -233,-15 -201,270
  rectangle: -179,85 -147,270
  rectangle: -125,-15 -93,270
  rectangle: -70,85 -38,270
  rectangle: -16,-15 16,270
  rectangle: 38,85 70,270
  rectangle: 93,-15 125,270
  rectangle: 147,85 179,270
  rectangle: 201,-15 233,270
  rectangle: 256,85 288,270
  rectangle: 310,-15 342,270
  rectangle: 365,85 397,270
  rectangle: 419,-15 451,270
  rectangle: 473,85 505,270
  rectangle: 528,-15 560,270
  rectangle: 582,85 614,270
  rectangle: 636,-15 668,270
  rectangle: 691,85 723,270
  rectangle: 745,-15 777,270
  rectangle: 799,85 831,270
  rectangle: 854,-15 886,270
  rectangle: 907,85 939,270
  rectangle: 962,-15 994,270
  lines w6: -1170,410 -1170,420 ; -1140,300 cw(c-1140,325) -1165,325 -1165,420 -1170,420 ; -1105,460 ccw(c-1105,485) -1080,485 -1080,685 cw(c-1060,685) -1060,705 -1050,705 1050,705 1060,705 cw(c1060,685) 1080,685 1080,485 ccw(c1105,485) 1105,460 ; 1140,300 ccw(c1140,325) 1165,325 1165,420 1170,420 ; 1170,410 1170,420 ; -1370,300 -1170,300 -1135,300 ; -1370,300 -1370,420 -1370,440 ; -1370,300 -1370,295 -1370,-100 -1345,-125 -1155,-125 -1135,-105 -1135,300 ; -1370,440 -1370,460 -1065,460 1065,460 1370,460 1370,440 ; -1370,440 -1270,440 -1170,440 ; -1170,420 -1170,440 ; -1170,440 1170,440 ; -1135,300 -1125,300 ; -1125,300 -1125,270 1125,270 1125,300 ; -1125,300 1125,300 ; 1125,300 1135,300 ; 1135,300 1170,300 1370,300 ; 1135,300 1135,-105 1155,-125 1350,-125 1370,-105 1370,295 1370,300 ; 1170,420 1170,440 ; 1170,440 1270,440 1370,440 ; 1370,300 1370,420 1370,440
  text "1" at -1060,-75 h77.5
  text "19" at 1025,-75 h77.5
  text "20" at -1105,25 h77.5
  text "37" at 1025,25 h77.5
  text "2,54" at 1350,100 h77.5
  text "F37" at -1060,335 h77.5
Mechanical 2:
  text ">NAME" at -1360,-250 h108.5
Mechanical 4:
  text ">VALUE" at -700,550 h108.5
Mechanical 9:
  circle w0: c-1250,0 r105
  circle w0: c1250,0 r105
Mechanical 10:
  circle w0: c-1250,0 r105
  circle w0: c1250,0 r105
Mechanical 16:
  lines w32: -978,-45 -978,-5 ; -924,55 -924,95 ; -869,-45 -869,-5 ; -815,55 -815,95 ; -761,-45 -761,-5 ; -706,55 -706,95 ; -652,-45 -652,-5 ; -598,55 -598,95 ; -543,-45 -543,-5 ; -489,55 -489,95 ; -435,-45 -435,-5 ; -380,55 -380,95 ; -326,-45 -326,-5 ; -272,55 -272,95 ; -217,-45 -217,-5 ; -163,55 -163,95 ; -109,-45 -109,-5 ; -54,55 -54,95 ; 0,-45 0,-5 ; 54,55 54,95 ; 109,-45 109,-5 ; 163,56 163,96 ; 217,-45 217,-5 ; 272,56 272,96 ; 326,-45 326,-5 ; 381,55 381,95 ; 435,-45 435,-5 ; 489,55 489,95 ; 544,-45 544,-5 ; 598,55 598,95 ; 652,-45 652,-5 ; 707,55 707,95 ; 761,-45 761,-5 ; 815,55 815,95 ; 870,-45 870,-5 ; 923,55 923,95 ; 978,-45 978,-5